# EAGLE library part ISL83072E (library Interface)
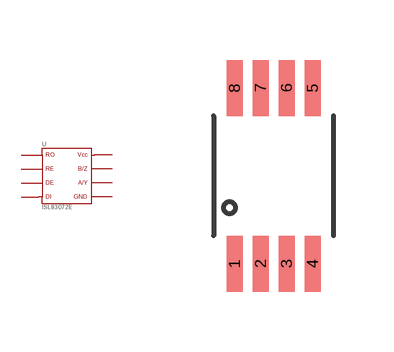
[diagram p0: symbol with the pads of MSOP-8; footprint MSOP-8]

Designator prefix U

## ISL83072E  [MSOP-8]
1  1  pas
2  2  pas
3  3  pas
4  4  pas
5  5  pas
6  6  pas
7  7  pas
8  8  pas

## Footprint MSOP-8 (pad centres in mm)
smd 0.4 x 1.4: 1 -0.975,-2.2; 2 -0.325,-2.2; 3 0.325,-2.2; 4 0.975,-2.2; 5 0.975,2.2; 6 0.325,2.2; 7 -0.325,2.2; 8 -0.975,2.2